# EAGLE library part 662022230822 (library Wuerth_Elektronik_eiCan_Wire_to_Board_Connectors)
WR-MPC3 3.00mm Male Dual Row SMT Angled Header Through Hole Retention Clip, 22 Pins=>Code : Con_WTB_MPC3_2_PCB_SMT_662022230822 <http://katalog.we-online.de/media/thumbs2/eican/thb_Con_WTB_MPC3_2_PCB_SMT_6620xx230822_pf2.jpg> Details see: http://katalog.we-online.de/en/em/662_0xx_230_822 Created 2014-06-06, Karrer Zheng 2014 (C) Würth Elektronik
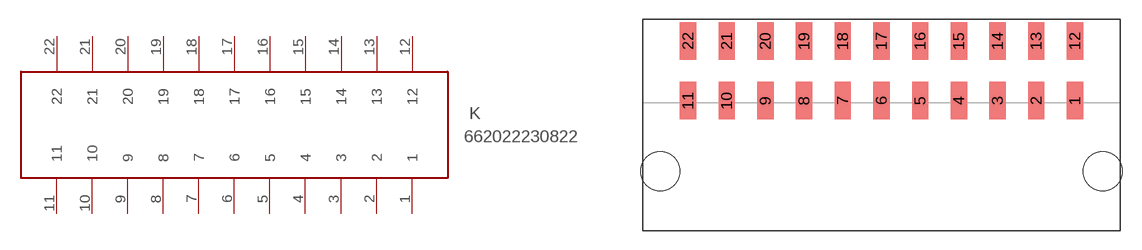
[diagram p397: symbol with the pads of 662022230822; footprint 662022230822]

Designator prefix K

## 662022230822  [662022230822]
1  1
2  2
3  3
4  4
5  5
6  6
7  7
8  8
9  9
10  10
11  11
12  12
13  13
14  14
15  15
16  16
17  17
18  18
19  19
20  20
21  21
22  22

## Footprint 662022230822 (pad centres in mm)
WR-MPC3 3.00mm Male Dual Row SMT Angled Header Through Hole Retention Clip, 22 Pins
smd 1.27 x 2.92: 1 0,-2.31; 2 -3,-2.31; 3 -6,-2.31; 4 -9,-2.31; 5 -12,-2.31; 6 -15,-2.31; 7 -18,-2.31; 8 -21,-2.31; 9 -24,-2.31; 10 -27,-2.31; 11 -30,-2.31; 12 0,2.31; 13 -3,2.31; 14 -6,2.31; 15 -9,2.31; 16 -12,2.31; 17 -15,2.31; 18 -18,2.31; 19 -21,2.31; 20 -24,2.31; 21 -27,2.31; 22 -30,2.31
hole 3 at 2.16,-7.79
hole 3 at -32.16,-7.79